# Altium integrated library Atmel Microcontroller 8-Bit AVR.IntLib: 241 symbols (part 8 of 8)
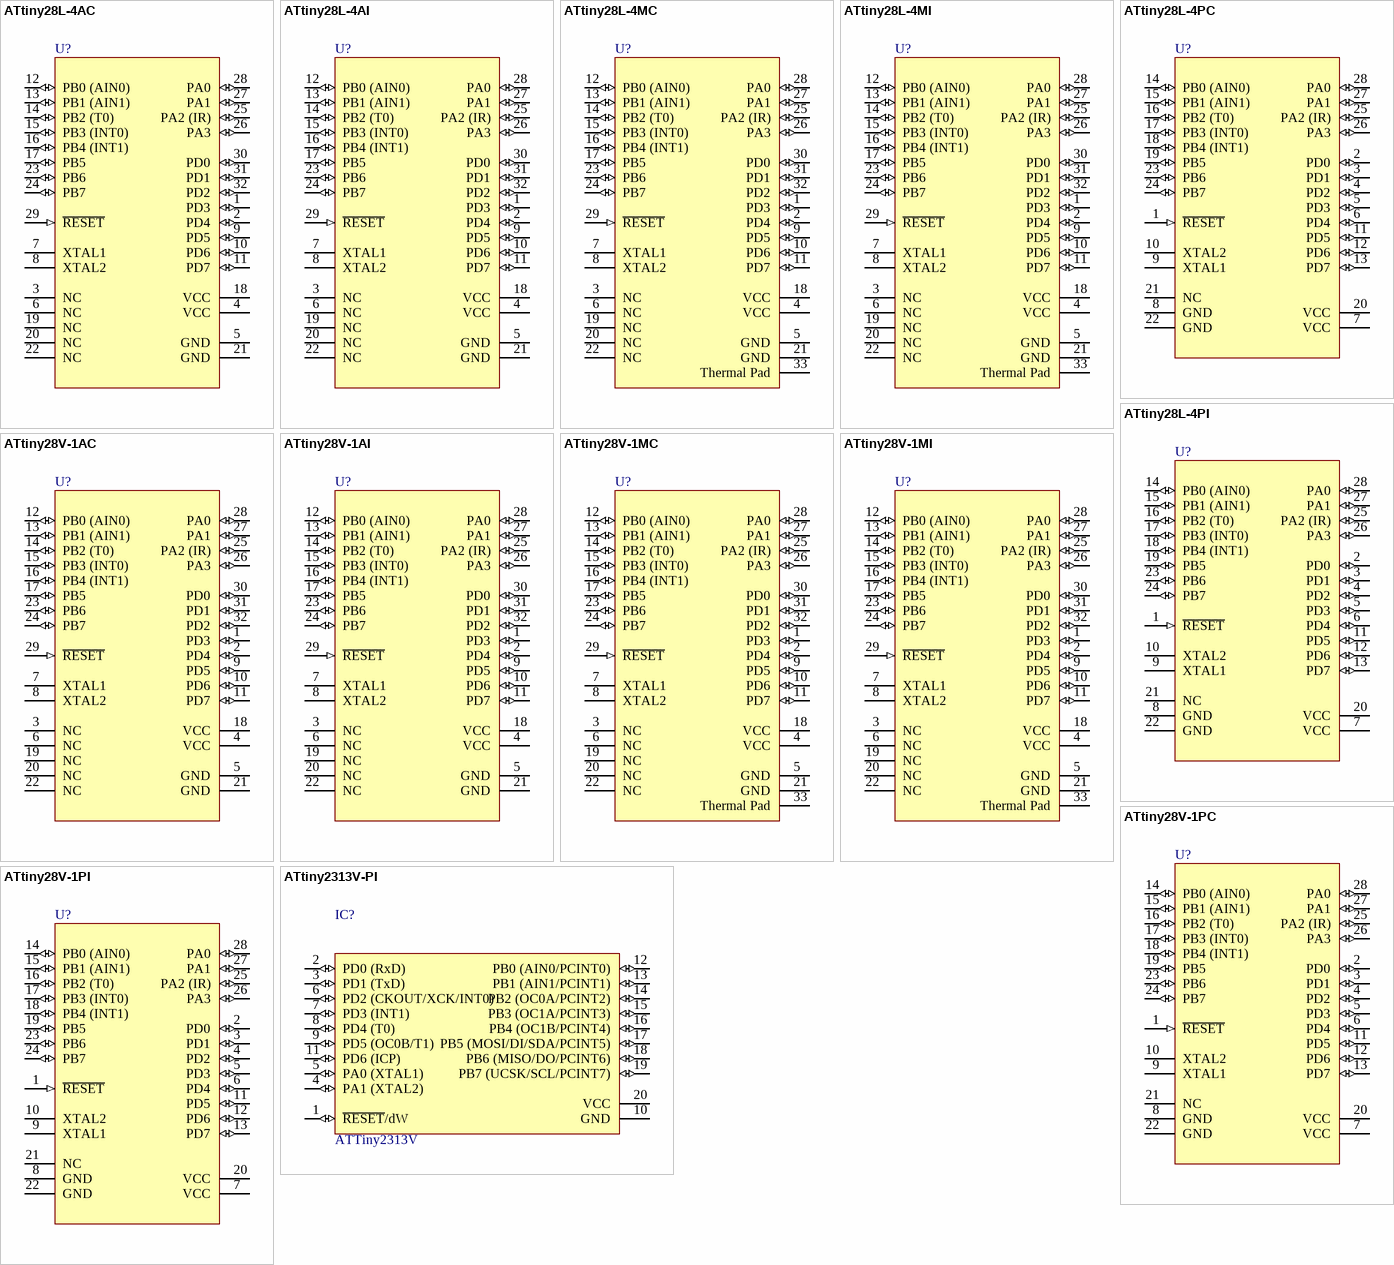
[diagram p25: symbols ATtiny28L-4AC to ATtiny2313V-PI]

## ATtiny28L-4MC
designator U?
8-Bit AVR Microcontroller with 2K Bytes of Flash Memory; Published: 26-May-2004; LatestRevisionDate: 13-Apr-2006; LatestRevisionNote: IPC-7351 Footprint Added.; DatasheetVersion: 1062E-10/01; PackageVersion: revB, Aug-2001; PackageReference: 32M1-A; Publisher: Altium Limited; PackageDescription: 32-Pin Quad Flat No-Lead 0.5 mm Pitch; Code_JEDEC: MO-220-VHHD-2; ComponentLink1Description: Manufacturer Link; ComponentLink1URL: http://www.atmel.com; ComponentLink2Description: Datasheet; ComponentLink2URL: http://www.atmel.com/dyn/resources/prod_documents/doc1062.pdf
footprint 32M1-A_N (QFN, 32-Leads, Body 5x5mm, Pitch 0.5mm, IPC Medium Density)
footprint 32M1-A_L (QFN, 32-Leads, Body 5x5mm, Pitch 0.5mm, IPC High Density)
footprint 32M1-A_M (QFN, 32-Leads, Body 5x5mm, Pitch 0.5mm, IPC Low Density)
pins: 1 PD3 (io), 2 PD4 (io), 3 NC, 4 VCC (power), 5 GND (power), 6 NC, 7 XTAL1, 8 XTAL2, 9 PD5 (io), 10 PD6 (io), 11 PD7 (io), 12 PB0 (AIN0) (io), 13 PB1 (AIN1) (io), 14 PB2 (T0) (io), 15 PB3 (INT0) (io), 16 PB4 (INT1) (io), 17 PB5 (io), 18 VCC (power), 19 NC, 20 NC, 21 GND (power), 22 NC, 23 PB6 (io), 24 PB7 (io), 25 PA2 (IR) (io), 26 PA3 (io), 27 PA1 (io), 28 PA0 (io), 29 ~{RESET} (in), 30 PD0 (io), 31 PD1 (io), 32 PD2 (io), 33 Thermal Pad (power)

## ATtiny28L-4MI
designator U?
8-Bit AVR Microcontroller with 2K Bytes of Flash Memory; Published: 26-May-2004; LatestRevisionDate: 13-Apr-2006; LatestRevisionNote: IPC-7351 Footprint Added.; DatasheetVersion: 1062E-10/01; PackageVersion: revB, Aug-2001; PackageReference: 32M1-A; Publisher: Altium Limited; PackageDescription: 32-Pin Quad Flat No-Lead 0.5 mm Pitch; Code_JEDEC: MO-220-VHHD-2; ComponentLink1Description: Manufacturer Link; ComponentLink1URL: http://www.atmel.com; ComponentLink2Description: Datasheet; ComponentLink2URL: http://www.atmel.com/dyn/resources/prod_documents/doc1062.pdf
footprint 32M1-A_N (QFN, 32-Leads, Body 5x5mm, Pitch 0.5mm, IPC Medium Density)
footprint 32M1-A_L (QFN, 32-Leads, Body 5x5mm, Pitch 0.5mm, IPC High Density)
footprint 32M1-A_M (QFN, 32-Leads, Body 5x5mm, Pitch 0.5mm, IPC Low Density)
pins: 1 PD3 (io), 2 PD4 (io), 3 NC, 4 VCC (power), 5 GND (power), 6 NC, 7 XTAL1, 8 XTAL2, 9 PD5 (io), 10 PD6 (io), 11 PD7 (io), 12 PB0 (AIN0) (io), 13 PB1 (AIN1) (io), 14 PB2 (T0) (io), 15 PB3 (INT0) (io), 16 PB4 (INT1) (io), 17 PB5 (io), 18 VCC (power), 19 NC, 20 NC, 21 GND (power), 22 NC, 23 PB6 (io), 24 PB7 (io), 25 PA2 (IR) (io), 26 PA3 (io), 27 PA1 (io), 28 PA0 (io), 29 ~{RESET} (in), 30 PD0 (io), 31 PD1 (io), 32 PD2 (io), 33 Thermal Pad (power)

## ATtiny28L-4PC
designator U?
8-Bit AVR Microcontroller with 2K Bytes of Flash Memory; Published: 17-Sep-2003; LatestRevisionDate: 04-Mar-2005; LatestRevisionNote: Stylized 3D Model Added.; DatasheetVersion: 1062E-10/01; PackageVersion: revB, Sep-2001; PackageReference: 28P3; Publisher: Altium Limited; PackageDescription: DIP; 28 Leads; Row Spacing 7.62 mm; Pitch 2.54 mm; ComponentLink1Description: Manufacturer Link; ComponentLink1URL: http://www.atmel.com; ComponentLink2Description: Datasheet; ComponentLink2URL: http://www.atmel.com/dyn/resources/prod_documents/doc1062.pdf
footprint 28P3 (DIP; 28 Leads; Row Spacing 7.62 mm; Pitch 2.54 mm)
3D model 28P3 (DIP; 28 Leads; Row Spacing 7.62 mm; Pitch 2.54 mm)
pins: 1 ~{RESET} (in), 2 PD0 (io), 3 PD1 (io), 4 PD2 (io), 5 PD3 (io), 6 PD4 (io), 7 VCC (power), 8 GND (power), 9 XTAL1, 10 XTAL2, 11 PD5 (io), 12 PD6 (io), 13 PD7 (io), 14 PB0 (AIN0) (io), 15 PB1 (AIN1) (io), 16 PB2 (T0) (io), 17 PB3 (INT0) (io), 18 PB4 (INT1) (io), 19 PB5 (io), 20 VCC (power), 21 NC, 22 GND (power), 23 PB6 (io), 24 PB7 (io), 25 PA2 (IR) (io), 26 PA3 (io), 27 PA1 (io), 28 PA0 (io)

## ATtiny28L-4PI
designator U?
8-Bit AVR Microcontroller with 2K Bytes of Flash Memory; Published: 17-Sep-2003; LatestRevisionDate: 04-Mar-2005; LatestRevisionNote: Stylized 3D Model Added.; DatasheetVersion: 1062E-10/01; PackageVersion: revB, Sep-2001; PackageReference: 28P3; Publisher: Altium Limited; PackageDescription: DIP; 28 Leads; Row Spacing 7.62 mm; Pitch 2.54 mm; ComponentLink1Description: Manufacturer Link; ComponentLink1URL: http://www.atmel.com; ComponentLink2Description: Datasheet; ComponentLink2URL: http://www.atmel.com/dyn/resources/prod_documents/doc1062.pdf
footprint 28P3 (DIP; 28 Leads; Row Spacing 7.62 mm; Pitch 2.54 mm)
3D model 28P3 (DIP; 28 Leads; Row Spacing 7.62 mm; Pitch 2.54 mm)
pins: 1 ~{RESET} (in), 2 PD0 (io), 3 PD1 (io), 4 PD2 (io), 5 PD3 (io), 6 PD4 (io), 7 VCC (power), 8 GND (power), 9 XTAL1, 10 XTAL2, 11 PD5 (io), 12 PD6 (io), 13 PD7 (io), 14 PB0 (AIN0) (io), 15 PB1 (AIN1) (io), 16 PB2 (T0) (io), 17 PB3 (INT0) (io), 18 PB4 (INT1) (io), 19 PB5 (io), 20 VCC (power), 21 NC, 22 GND (power), 23 PB6 (io), 24 PB7 (io), 25 PA2 (IR) (io), 26 PA3 (io), 27 PA1 (io), 28 PA0 (io)

## ATtiny28V-1AC
designator U?
8-Bit AVR Microcontroller with 2K Bytes of Flash Memory; Published: 17-Sep-2003; LatestRevisionDate: 13-Apr-2006; LatestRevisionNote: IPC-7351 Footprint Added.; DatasheetVersion: 1062E-10/01; PackageVersion: revB, Oct-2001; PackageReference: 32A; Publisher: Altium Limited; PackageDescription: 32-Pin Thin Quad Flat Pack 0.8 mm Pitch; Code_JEDEC: MS-026-ABA; ComponentLink1Description: Manufacturer Link; ComponentLink1URL: http://www.atmel.com; ComponentLink2Description: Datasheet; ComponentLink2URL: http://www.atmel.com/dyn/resources/prod_documents/doc1062.pdf
footprint 32A_N (Thin QFP, 32-Leads, Body 7x7mm, Pitch 0.8mm, IPC Medium Density)
footprint 32A_L (Thin QFP, 32-Leads, Body 7x7mm, Pitch 0.8mm, IPC High Density)
footprint 32A_M (Thin QFP, 32-Leads, Body 7x7mm, Pitch 0.8mm, IPC Low Density)
3D model ATTINY28V-32A (32-Pin Thin Quad Flat Pack 0.8 mm Pitch)
pins: 1 PD3 (io), 2 PD4 (io), 3 NC, 4 VCC (power), 5 GND (power), 6 NC, 7 XTAL1, 8 XTAL2, 9 PD5 (io), 10 PD6 (io), 11 PD7 (io), 12 PB0 (AIN0) (io), 13 PB1 (AIN1) (io), 14 PB2 (T0) (io), 15 PB3 (INT0) (io), 16 PB4 (INT1) (io), 17 PB5 (io), 18 VCC (power), 19 NC, 20 NC, 21 GND (power), 22 NC, 23 PB6 (io), 24 PB7 (io), 25 PA2 (IR) (io), 26 PA3 (io), 27 PA1 (io), 28 PA0 (io), 29 ~{RESET} (in), 30 PD0 (io), 31 PD1 (io), 32 PD2 (io)

## ATtiny28V-1AI
designator U?
8-Bit AVR Microcontroller with 2K Bytes of Flash Memory; Published: 17-Sep-2003; LatestRevisionDate: 13-Apr-2006; LatestRevisionNote: IPC-7351 Footprint Added.; DatasheetVersion: 1062E-10/01; PackageVersion: revB, Oct-2001; PackageReference: 32A; Publisher: Altium Limited; PackageDescription: 32-Pin Thin Quad Flat Pack 0.8 mm Pitch; Code_JEDEC: MS-026-ABA; ComponentLink1Description: Manufacturer Link; ComponentLink1URL: http://www.atmel.com; ComponentLink2Description: Datasheet; ComponentLink2URL: http://www.atmel.com/dyn/resources/prod_documents/doc1062.pdf
footprint 32A_N (Thin QFP, 32-Leads, Body 7x7mm, Pitch 0.8mm, IPC Medium Density)
footprint 32A_L (Thin QFP, 32-Leads, Body 7x7mm, Pitch 0.8mm, IPC High Density)
footprint 32A_M (Thin QFP, 32-Leads, Body 7x7mm, Pitch 0.8mm, IPC Low Density)
3D model ATTINY28V-32A (32-Pin Thin Quad Flat Pack 0.8 mm Pitch)
pins: 1 PD3 (io), 2 PD4 (io), 3 NC, 4 VCC (power), 5 GND (power), 6 NC, 7 XTAL1, 8 XTAL2, 9 PD5 (io), 10 PD6 (io), 11 PD7 (io), 12 PB0 (AIN0) (io), 13 PB1 (AIN1) (io), 14 PB2 (T0) (io), 15 PB3 (INT0) (io), 16 PB4 (INT1) (io), 17 PB5 (io), 18 VCC (power), 19 NC, 20 NC, 21 GND (power), 22 NC, 23 PB6 (io), 24 PB7 (io), 25 PA2 (IR) (io), 26 PA3 (io), 27 PA1 (io), 28 PA0 (io), 29 ~{RESET} (in), 30 PD0 (io), 31 PD1 (io), 32 PD2 (io)

## ATtiny28V-1MC
designator U?
8-Bit AVR Microcontroller with 2K Bytes of Flash Memory; Published: 26-May-2004; LatestRevisionDate: 13-Apr-2006; LatestRevisionNote: IPC-7351 Footprint Added.; DatasheetVersion: 1062E-10/01; PackageVersion: revB, Aug-2001; PackageReference: 32M1-A; Publisher: Altium Limited; PackageDescription: 32-Pin Quad Flat No-Lead 0.5 mm Pitch; Code_JEDEC: MO-220-VHHD-2; ComponentLink1Description: Manufacturer Link; ComponentLink1URL: http://www.atmel.com; ComponentLink2Description: Datasheet; ComponentLink2URL: http://www.atmel.com/dyn/resources/prod_documents/doc1062.pdf
footprint 32M1-A_N (QFN, 32-Leads, Body 5x5mm, Pitch 0.5mm, IPC Medium Density)
footprint 32M1-A_L (QFN, 32-Leads, Body 5x5mm, Pitch 0.5mm, IPC High Density)
footprint 32M1-A_M (QFN, 32-Leads, Body 5x5mm, Pitch 0.5mm, IPC Low Density)
pins: 1 PD3 (io), 2 PD4 (io), 3 NC, 4 VCC (power), 5 GND (power), 6 NC, 7 XTAL1, 8 XTAL2, 9 PD5 (io), 10 PD6 (io), 11 PD7 (io), 12 PB0 (AIN0) (io), 13 PB1 (AIN1) (io), 14 PB2 (T0) (io), 15 PB3 (INT0) (io), 16 PB4 (INT1) (io), 17 PB5 (io), 18 VCC (power), 19 NC, 20 NC, 21 GND (power), 22 NC, 23 PB6 (io), 24 PB7 (io), 25 PA2 (IR) (io), 26 PA3 (io), 27 PA1 (io), 28 PA0 (io), 29 ~{RESET} (in), 30 PD0 (io), 31 PD1 (io), 32 PD2 (io), 33 Thermal Pad (power)

## ATtiny28V-1MI
designator U?
8-Bit AVR Microcontroller with 2K Bytes of Flash Memory; Published: 26-May-2004; LatestRevisionDate: 13-Apr-2006; LatestRevisionNote: IPC-7351 Footprint Added.; DatasheetVersion: 1062E-10/01; PackageVersion: revB, Aug-2001; PackageReference: 32M1-A; Publisher: Altium Limited; PackageDescription: 32-Pin Quad Flat No-Lead 0.5 mm Pitch; Code_JEDEC: MO-220-VHHD-2; ComponentLink1Description: Manufacturer Link; ComponentLink1URL: http://www.atmel.com; ComponentLink2Description: Datasheet; ComponentLink2URL: http://www.atmel.com/dyn/resources/prod_documents/doc1062.pdf
footprint 32M1-A_N (QFN, 32-Leads, Body 5x5mm, Pitch 0.5mm, IPC Medium Density)
footprint 32M1-A_L (QFN, 32-Leads, Body 5x5mm, Pitch 0.5mm, IPC High Density)
footprint 32M1-A_M (QFN, 32-Leads, Body 5x5mm, Pitch 0.5mm, IPC Low Density)
pins: 1 PD3 (io), 2 PD4 (io), 3 NC, 4 VCC (power), 5 GND (power), 6 NC, 7 XTAL1, 8 XTAL2, 9 PD5 (io), 10 PD6 (io), 11 PD7 (io), 12 PB0 (AIN0) (io), 13 PB1 (AIN1) (io), 14 PB2 (T0) (io), 15 PB3 (INT0) (io), 16 PB4 (INT1) (io), 17 PB5 (io), 18 VCC (power), 19 NC, 20 NC, 21 GND (power), 22 NC, 23 PB6 (io), 24 PB7 (io), 25 PA2 (IR) (io), 26 PA3 (io), 27 PA1 (io), 28 PA0 (io), 29 ~{RESET} (in), 30 PD0 (io), 31 PD1 (io), 32 PD2 (io), 33 Thermal Pad (power)

## ATtiny28V-1PC
designator U?
8-Bit AVR Microcontroller with 2K Bytes of Flash Memory; Published: 17-Sep-2003; LatestRevisionDate: 04-Mar-2005; LatestRevisionNote: Stylized 3D Model Added.; DatasheetVersion: 1062E-10/01; PackageVersion: revB, Sep-2001; PackageReference: 28P3; Publisher: Altium Limited; PackageDescription: DIP; 28 Leads; Row Spacing 7.62 mm; Pitch 2.54 mm; ComponentLink1Description: Manufacturer Link; ComponentLink1URL: http://www.atmel.com; ComponentLink2Description: Datasheet; ComponentLink2URL: http://www.atmel.com/dyn/resources/prod_documents/doc1062.pdf
footprint 28P3 (DIP; 28 Leads; Row Spacing 7.62 mm; Pitch 2.54 mm)
3D model 28P3 (DIP; 28 Leads; Row Spacing 7.62 mm; Pitch 2.54 mm)
pins: 1 ~{RESET} (in), 2 PD0 (io), 3 PD1 (io), 4 PD2 (io), 5 PD3 (io), 6 PD4 (io), 7 VCC (power), 8 GND (power), 9 XTAL1, 10 XTAL2, 11 PD5 (io), 12 PD6 (io), 13 PD7 (io), 14 PB0 (AIN0) (io), 15 PB1 (AIN1) (io), 16 PB2 (T0) (io), 17 PB3 (INT0) (io), 18 PB4 (INT1) (io), 19 PB5 (io), 20 VCC (power), 21 NC, 22 GND (power), 23 PB6 (io), 24 PB7 (io), 25 PA2 (IR) (io), 26 PA3 (io), 27 PA1 (io), 28 PA0 (io)

## ATtiny28V-1PI
designator U?
8-Bit AVR Microcontroller with 2K Bytes of Flash Memory; Published: 17-Sep-2003; LatestRevisionDate: 04-Mar-2005; LatestRevisionNote: Stylized 3D Model Added.; DatasheetVersion: 1062E-10/01; PackageVersion: revB, Sep-2001; PackageReference: 28P3; Publisher: Altium Limited; PackageDescription: DIP; 28 Leads; Row Spacing 7.62 mm; Pitch 2.54 mm; ComponentLink1Description: Manufacturer Link; ComponentLink1URL: http://www.atmel.com; ComponentLink2Description: Datasheet; ComponentLink2URL: http://www.atmel.com/dyn/resources/prod_documents/doc1062.pdf
footprint 28P3 (DIP; 28 Leads; Row Spacing 7.62 mm; Pitch 2.54 mm)
3D model 28P3 (DIP; 28 Leads; Row Spacing 7.62 mm; Pitch 2.54 mm)
pins: 1 ~{RESET} (in), 2 PD0 (io), 3 PD1 (io), 4 PD2 (io), 5 PD3 (io), 6 PD4 (io), 7 VCC (power), 8 GND (power), 9 XTAL1, 10 XTAL2, 11 PD5 (io), 12 PD6 (io), 13 PD7 (io), 14 PB0 (AIN0) (io), 15 PB1 (AIN1) (io), 16 PB2 (T0) (io), 17 PB3 (INT0) (io), 18 PB4 (INT1) (io), 19 PB5 (io), 20 VCC (power), 21 NC, 22 GND (power), 23 PB6 (io), 24 PB7 (io), 25 PA2 (IR) (io), 26 PA3 (io), 27 PA1 (io), 28 PA0 (io)

## ATtiny2313V-PI
designator IC?, comment ATTiny2313V
8-Bit AVR Microcontroller with 2K Bytes of Flash Memory; Published: 17-Sep-2003; LatestRevisionDate: 04-Mar-2005; LatestRevisionNote: Stylized 3D Model Added.; DatasheetVersion: 1477C-AVR-09/02; PackageVersion: Aug-1999; PackageReference: 20P3; Publisher: Altium Limited; PackageDescription: DIP; 20 Leads; Row Spacing 7.62 mm; Pitch 2.54 mm; Code_JEDEC: MS-001-AD; ComponentLink1Description: Manufacturer Link; ComponentLink1URL: http://www.atmel.com; ComponentLink2Description: Datasheet; ComponentLink2URL: http://www.atmel.com/dyn/resources/prod_documents/doc1477.pdf
footprint 20P3 (DIP; 20 Leads; Row Spacing 7.62 mm; Pitch 2.54 mm)
3D model 20P3 (DIP; 20 Leads; Row Spacing 7.62 mm; Pitch 2.54 mm)
pins: 1 ~{RESET}/dW (io), 2 PD0 (RxD) (io), 3 PD1 (TxD) (io), 4 PA1 (XTAL2) (io), 5 PA0 (XTAL1) (io), 6 PD2 (CKOUT/XCK/INT0) (io), 7 PD3 (INT1) (io), 8 PD4 (T0) (io), 9 PD5 (OC0B/T1) (io), 10 GND (power), 11 PD6 (ICP) (io), 12 PB0 (AIN0/PCINT0) (io), 13 PB1 (AIN1/PCINT1) (io), 14 PB2 (OC0A/PCINT2) (io), 15 PB3 (OC1A/PCINT3) (io), 16 PB4 (OC1B/PCINT4) (io), 17 PB5 (MOSI/DI/SDA/PCINT5) (io), 18 PB6 (MISO/DO/PCINT6) (io), 19 PB7 (UCSK/SCL/PCINT7) (io), 20 VCC (power)